# Altium footprint library VSSOP.PcbLib: 3 footprints
Each footprint in its own frame and in the unit in brackets; x right, y up, seen from the top. Pads: shape width x height; smd on the part's side, far side on the other; paste and mask are expansions set on the pad; w line width, h text height; cw(c..) or ccw(c..) is an arc to the next point about the centre after c.
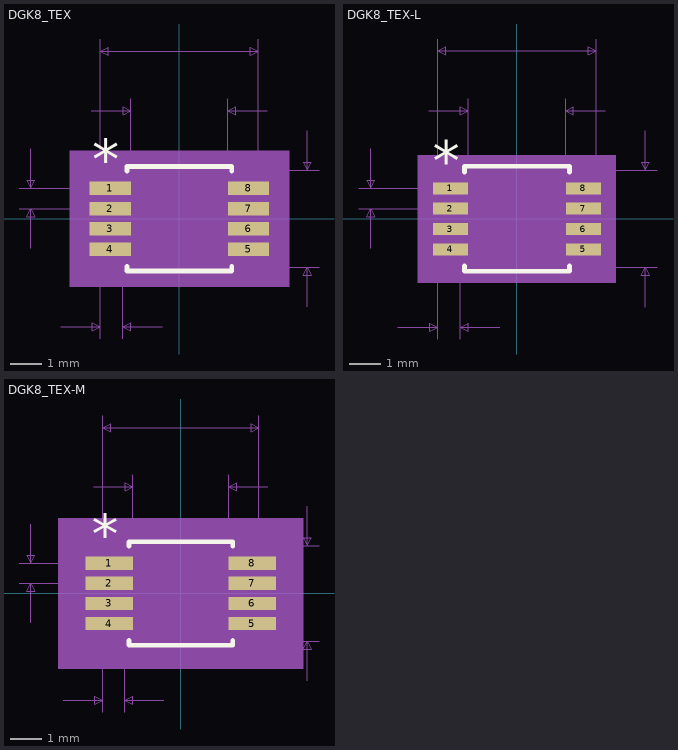
[diagram p0: the footprints below, top view; thin cyan lines are the x and y axes]

## DGK8_TEX [mm]
pads (8):
  rect 1.328x0.431 smd paste+0 mask+0: 1(-2.213,0.975) 2(-2.213,0.325) 3(-2.213,-0.325) 4(-2.213,-0.975) 5(2.213,-0.975) 6(2.213,-0.325) 7(2.213,0.325) 8(2.213,0.975)
Top Overlay:
  lines w0.152: -1.676,-1.523 -1.676,-1.676 1.676,-1.676 1.676,-1.523 ; -1.676,1.523 -1.676,1.676 1.676,1.676 1.676,1.523
  text "*" at -2.785,1.279 h1.27
Mechanical 5:
  region: 3.512,-2.184 -3.512,-2.184 -3.512,2.184 3.512,2.184
Mechanical 7:
  lines w0.025: -5.134,0.325 -2.213,0.325 ; -5.134,0.975 -2.213,0.975 ; -4.753,-0.945 -4.753,0.325 ; -4.753,2.245 -4.753,0.975 ; -3.797,-3.454 -2.527,-3.454 ; -2.819,3.454 -1.549,3.454 ; -2.527,-3.835 -2.527,0 -2.527,5.74 ; -1.816,-3.835 -1.816,0 ; -1.549,0 -1.549,3.835 ; -0.546,-3.454 -1.816,-3.454 ; 0,-1.549 4.47,-1.549 ; 0,1.549 4.47,1.549 ; 1.549,0 1.549,3.835 ; 2.527,0 2.527,5.74 ; 2.819,3.454 1.549,3.454 ; 4.089,-2.819 4.089,-1.549 ; 4.089,2.819 4.089,1.549 ; -4.753,0.325 -4.88,0.071 -4.626,0.071 -4.753,0.325 ; -4.753,0.975 -4.88,1.229 -4.626,1.229 -4.753,0.975 ; -2.527,-3.454 -2.781,-3.327 -2.781,-3.581 -2.527,-3.454 ; -2.527,5.359 2.527,5.359 ; -2.527,5.359 -2.273,5.486 -2.273,5.232 -2.527,5.359 ; -1.816,-3.454 -1.562,-3.327 -1.562,-3.581 -1.816,-3.454 ; -1.549,3.454 -1.803,3.581 -1.803,3.327 -1.549,3.454 ; 1.549,3.454 1.803,3.581 1.803,3.327 1.549,3.454 ; 2.527,5.359 2.273,5.486 2.273,5.232 2.527,5.359 ; 4.089,-1.549 3.962,-1.803 4.216,-1.803 4.089,-1.549 ; 4.089,1.549 3.962,1.803 4.216,1.803 4.089,1.549
  text "Default Padstyle: r133_43" at -7.938,-6.629 h1.27
  text "Pin One Padstyle: r133_43" at -7.938,-8.153 h1.27
  text "Alt 1 Padstyle: b152_229h76" at -8.572,-12.725 h1.27
  text "Alt 2 Padstyle: b229_152h76" at -8.572,-14.249 h1.27
  text "0.122in/3.099mm" at -2.381,3.962 h0.64
  text "0.199in/5.055mm" at -2.381,5.867 h0.64
  text "0.122in/3.099mm" at 4.597,-0.318 h0.64
  text "0.026in/0.65mm" at -9.706,0.332 h0.64
  text "0.028in/0.711mm" at -4.553,-4.597 h0.64
Mechanical 13:
  lines w0: -0.305,1.549 ccw(c0,1.549) 0.305,1.549
  lines w0.025: -2.527,-1.165 -2.527,-0.784 -1.549,-0.784 -1.549,-1.165 -2.527,-1.165 ; -2.527,-0.516 -2.527,-0.135 -1.549,-0.135 -1.549,-0.516 -2.527,-0.516 ; -2.527,0.135 -2.527,0.516 -1.549,0.516 -1.549,0.135 -2.527,0.135 ; -2.527,0.784 -2.527,1.165 -1.549,1.165 -1.549,0.784 -2.527,0.784 ; -1.549,-1.549 1.549,-1.549 1.549,1.549 -1.549,1.549 -1.549,-1.549 ; 1.549,-1.165 1.549,-0.784 2.527,-0.784 2.527,-1.165 1.549,-1.165 ; 1.549,-0.516 1.549,-0.135 2.527,-0.135 2.527,-0.516 1.549,-0.516 ; 1.549,0.135 1.549,0.516 2.527,0.516 2.527,0.135 1.549,0.135 ; 1.549,0.784 1.549,1.165 2.527,1.165 2.527,0.784 1.549,0.784
  text "*" at -1.486,0.203 h1.27
Mechanical 15:
  region: -1.803,-1.445 -3.131,-1.445 -3.131,1.445 -1.803,1.445 -1.803,1.803 1.803,1.803 1.803,1.445 3.131,1.445 3.131,-1.445 1.803,-1.445 1.803,-1.803 -1.803,-1.803
  lines w0.152: -3.131,-1.445 -3.131,1.445 -1.803,1.445 -1.803,1.803 1.803,1.803 1.803,1.445 3.131,1.445 3.131,-1.445 1.803,-1.445 1.803,-1.803 -1.803,-1.803 -1.803,-1.445 -3.131,-1.445
3D body "VSSOP_DGK8.stp": height 1.1, standoff 0, extent -2.451,-1.499 2.451,1.499

## DGK8_TEX-L [mm]
pads (8):
  rect 1.111x0.381 smd paste+0 mask+0: 1(-2.122,0.975) 2(-2.122,0.325) 3(-2.122,-0.325) 4(-2.122,-0.975) 5(2.122,-0.975) 6(2.122,-0.325) 7(2.122,0.325) 8(2.122,0.975)
Top Overlay:
  lines w0.152: -1.676,-1.498 -1.676,-1.676 1.676,-1.676 1.676,-1.498 ; -1.676,1.498 -1.676,1.676 1.676,1.676 1.676,1.498
  text "*" at -2.693,1.229 h1.27
Mechanical 5:
  region: 3.16,-2.032 -3.16,-2.032 -3.16,2.032 3.16,2.032
Mechanical 7:
  lines w0.025: -5.043,0.325 -2.122,0.325 ; -5.043,0.975 -2.122,0.975 ; -4.662,-0.945 -4.662,0.325 ; -4.662,2.245 -4.662,0.975 ; -3.797,-3.454 -2.527,-3.454 ; -2.819,3.454 -1.549,3.454 ; -2.527,-3.835 -2.527,0 -2.527,5.74 ; -1.816,-3.835 -1.816,0 ; -1.549,0 -1.549,3.835 ; -0.546,-3.454 -1.816,-3.454 ; 0,-1.549 4.47,-1.549 ; 0,1.549 4.47,1.549 ; 1.549,0 1.549,3.835 ; 2.527,0 2.527,5.74 ; 2.819,3.454 1.549,3.454 ; 4.089,-2.819 4.089,-1.549 ; 4.089,2.819 4.089,1.549 ; -4.662,0.325 -4.789,0.071 -4.535,0.071 -4.662,0.325 ; -4.662,0.975 -4.789,1.229 -4.535,1.229 -4.662,0.975 ; -2.527,-3.454 -2.781,-3.327 -2.781,-3.581 -2.527,-3.454 ; -2.527,5.359 2.527,5.359 ; -2.527,5.359 -2.273,5.486 -2.273,5.232 -2.527,5.359 ; -1.816,-3.454 -1.562,-3.327 -1.562,-3.581 -1.816,-3.454 ; -1.549,3.454 -1.803,3.581 -1.803,3.327 -1.549,3.454 ; 1.549,3.454 1.803,3.581 1.803,3.327 1.549,3.454 ; 2.527,5.359 2.273,5.486 2.273,5.232 2.527,5.359 ; 4.089,-1.549 3.962,-1.803 4.216,-1.803 4.089,-1.549 ; 4.089,1.549 3.962,1.803 4.216,1.803 4.089,1.549
  text "Default Padstyle: r111_38" at -7.938,-6.629 h1.27
  text "Pin One Padstyle: r111_38" at -7.938,-8.153 h1.27
  text "Alt 1 Padstyle: b152_229h76" at -8.572,-12.725 h1.27
  text "Alt 2 Padstyle: b229_152h76" at -8.572,-14.249 h1.27
  text "0.122in/3.099mm" at -2.381,3.962 h0.64
  text "0.199in/5.055mm" at -2.381,5.867 h0.64
  text "0.122in/3.099mm" at 4.597,-0.318 h0.64
  text "0.026in/0.65mm" at -9.615,0.332 h0.64
  text "0.028in/0.711mm" at -4.553,-4.597 h0.64
Mechanical 13:
  lines w0: -0.305,1.549 ccw(c0,1.549) 0.305,1.549
  lines w0.025: -2.527,-1.165 -2.527,-0.784 -1.549,-0.784 -1.549,-1.165 -2.527,-1.165 ; -2.527,-0.516 -2.527,-0.135 -1.549,-0.135 -1.549,-0.516 -2.527,-0.516 ; -2.527,0.135 -2.527,0.516 -1.549,0.516 -1.549,0.135 -2.527,0.135 ; -2.527,0.784 -2.527,1.165 -1.549,1.165 -1.549,0.784 -2.527,0.784 ; -1.549,-1.549 1.549,-1.549 1.549,1.549 -1.549,1.549 -1.549,-1.549 ; 1.549,-1.165 1.549,-0.784 2.527,-0.784 2.527,-1.165 1.549,-1.165 ; 1.549,-0.516 1.549,-0.135 2.527,-0.135 2.527,-0.516 1.549,-0.516 ; 1.549,0.135 1.549,0.516 2.527,0.516 2.527,0.135 1.549,0.135 ; 1.549,0.784 1.549,1.165 2.527,1.165 2.527,0.784 1.549,0.784
  text "*" at -1.486,0.203 h1.27
Mechanical 15:
  region: -1.651,-1.267 -2.779,-1.267 -2.779,1.267 -1.651,1.267 -1.651,1.651 1.651,1.651 1.651,1.267 2.779,1.267 2.779,-1.267 1.651,-1.267 1.651,-1.651 -1.651,-1.651
  lines w0.152: -2.779,-1.267 -2.779,1.267 -1.651,1.267 -1.651,1.651 1.651,1.651 1.651,1.267 2.779,1.267 2.779,-1.267 1.651,-1.267 1.651,-1.651 -1.651,-1.651 -1.651,-1.267 -2.779,-1.267
3D body "VSSOP_DGK8.stp": height 1.1, standoff 0, extent -2.451,-1.499 2.451,1.499

## DGK8_TEX-M [mm]
pads (8):
  rect 1.528x0.431 smd paste+0 mask+0: 1(-2.313,0.975) 2(-2.313,0.325) 3(-2.313,-0.325) 4(-2.313,-0.975) 5(2.313,-0.975) 6(2.313,-0.325) 7(2.313,0.325) 8(2.313,0.975)
Top Overlay:
  lines w0.152: -1.676,-1.523 -1.676,-1.676 1.676,-1.676 1.676,-1.523 ; -1.676,1.523 -1.676,1.676 1.676,1.676 1.676,1.523
  text "*" at -2.885,1.279 h1.27
Mechanical 5:
  region: 3.966,-2.438 -3.966,-2.438 -3.966,2.438 3.966,2.438
Mechanical 7:
  lines w0.025: -5.234,0.325 -2.313,0.325 ; -5.234,0.975 -2.313,0.975 ; -4.853,-0.945 -4.853,0.325 ; -4.853,2.245 -4.853,0.975 ; -3.797,-3.454 -2.527,-3.454 ; -2.819,3.454 -1.549,3.454 ; -2.527,-3.835 -2.527,0 -2.527,5.74 ; -1.816,-3.835 -1.816,0 ; -1.549,0 -1.549,3.835 ; -0.546,-3.454 -1.816,-3.454 ; 0,-1.549 4.47,-1.549 ; 0,1.549 4.47,1.549 ; 1.549,0 1.549,3.835 ; 2.527,0 2.527,5.74 ; 2.819,3.454 1.549,3.454 ; 4.089,-2.819 4.089,-1.549 ; 4.089,2.819 4.089,1.549 ; -4.853,0.325 -4.726,0.071 -4.98,0.071 -4.853,0.325 ; -4.853,0.975 -4.726,1.229 -4.98,1.229 -4.853,0.975 ; -2.527,-3.454 -2.781,-3.581 -2.781,-3.327 -2.527,-3.454 ; -2.527,5.359 -2.273,5.232 -2.273,5.486 -2.527,5.359 ; -2.527,5.359 2.527,5.359 ; -1.816,-3.454 -1.562,-3.581 -1.562,-3.327 -1.816,-3.454 ; -1.549,3.454 -1.803,3.327 -1.803,3.581 -1.549,3.454 ; 1.549,3.454 1.803,3.327 1.803,3.581 1.549,3.454 ; 2.527,5.359 2.273,5.232 2.273,5.486 2.527,5.359 ; 4.089,-1.549 4.216,-1.803 3.962,-1.803 4.089,-1.549 ; 4.089,1.549 4.216,1.803 3.962,1.803 4.089,1.549
  text "0.028in/0.711mm" at -4.553,-4.597 h0.64
  text "0.026in/0.65mm" at -9.806,0.332 h0.64
  text "0.122in/3.099mm" at 4.597,-0.318 h0.64
  text "0.199in/5.055mm" at -2.381,5.867 h0.64
  text "0.122in/3.099mm" at -2.381,3.962 h0.64
  text "Alt 2 Padstyle: b229_152h76" at -8.572,-14.249 h1.27
  text "Alt 1 Padstyle: b152_229h76" at -8.572,-12.725 h1.27
  text "Pin One Padstyle: r153_43" at -7.938,-8.153 h1.27
  text "Default Padstyle: r153_43" at -7.938,-6.629 h1.27
Mechanical 13:
  lines w0: -0.305,1.549 ccw(c0,1.549) 0.305,1.549
  lines w0.025: -2.527,-1.165 -1.549,-1.165 -1.549,-0.784 -2.527,-0.784 -2.527,-1.165 ; -2.527,-0.516 -1.549,-0.516 -1.549,-0.135 -2.527,-0.135 -2.527,-0.516 ; -2.527,0.135 -1.549,0.135 -1.549,0.516 -2.527,0.516 -2.527,0.135 ; -2.527,0.784 -1.549,0.784 -1.549,1.165 -2.527,1.165 -2.527,0.784 ; -1.549,-1.549 -1.549,1.549 1.549,1.549 1.549,-1.549 -1.549,-1.549 ; 1.549,-1.165 2.527,-1.165 2.527,-0.784 1.549,-0.784 1.549,-1.165 ; 1.549,-0.516 2.527,-0.516 2.527,-0.135 1.549,-0.135 1.549,-0.516 ; 1.549,0.135 2.527,0.135 2.527,0.516 1.549,0.516 1.549,0.135 ; 1.549,0.784 2.527,0.784 2.527,1.165 1.549,1.165 1.549,0.784
  text "*" at -1.486,0.203 h1.27
Mechanical 15:
  region: -2.057,-1.699 -3.585,-1.699 -3.585,1.699 -2.057,1.699 -2.057,2.057 2.057,2.057 2.057,1.699 3.585,1.699 3.585,-1.699 2.057,-1.699 2.057,-2.057 -2.057,-2.057
  lines w0.152: -3.585,-1.699 -2.057,-1.699 -2.057,-2.057 2.057,-2.057 2.057,-1.699 3.585,-1.699 3.585,1.699 2.057,1.699 2.057,2.057 -2.057,2.057 -2.057,1.699 -3.585,1.699 -3.585,-1.699
3D body "VSSOP_DGK8.stp": height 1.1, standoff 0, extent -2.451,-1.499 2.451,1.499